# Altium footprint library PcbLib2.PcbLib: 1 footprints
Each footprint in its own frame and in the unit in brackets; x right, y up, seen from the top. Pads: shape width x height; smd on the part's side, far side on the other; paste and mask are expansions set on the pad; w line width, h text height; cw(c..) or ccw(c..) is an arc to the next point about the centre after c.
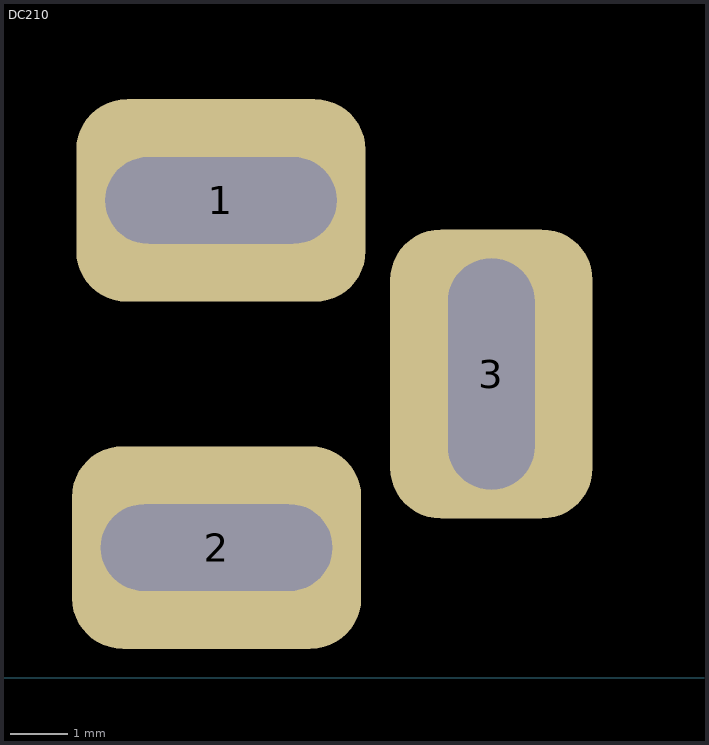
[diagram p0: the footprint, top view; thin cyan lines are the x and y axes]

## DC210 [mm]
pads (3):
  rrect50% 5x3.5 hole 1.5 slot 4 at 0 deg: 1(4.325,8.25) 2(4.25,2.25)
  rrect50% 3.5x5 hole 1.5 slot 4 at 90 deg: 3(9,5.25)
3D body "User Library-ds-210.step": height 11.5, standoff -3.9, extent -0.279,-5.599 9.271,8.901